# EAGLE library part ADAFRUIT_MPU6050_IMU (library AERO_Eagle_Library)
Adafruit's 6-DOF IMU: MPU6050
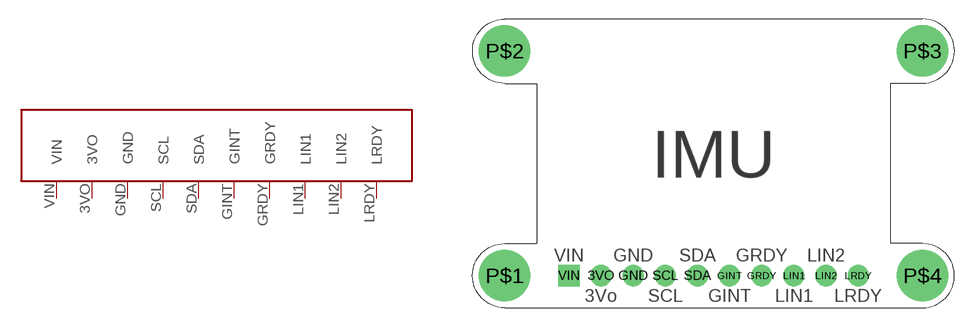
[diagram p0: symbol with the pads of ADAFRUIT_MPU6050_IMU; footprint ADAFRUIT_MPU6050_IMU]

Designator prefix U

## ADAFRUIT_MPU6050_IMU  [ADAFRUIT_MPU6050_IMU]
3VO  3VO
GINT  GINT
GND  GND
GRDY  GRDY
LIN1  LIN1
LIN2  LIN2
LRDY  LRDY
SCL  SCL
SDA  SDA
VIN  VIN

## Footprint ADAFRUIT_MPU6050_IMU (pad centres in mm)
Adafruit's 6-DOF IMU: MPU6050
drill 1 pad 1.676: 3VO 9.147,1.777; GINT 19.307,1.777; GND 11.687,1.777; GRDY 21.847,1.777; LIN1 24.387,1.777; LIN2 26.927,1.777; LRDY 29.467,1.777; SCL 14.227,1.777; SDA 16.767,1.777
drill 2.54 pad 4.064: P$1 1.527,1.777; P$2 1.527,19.558; P$3 34.544,19.558; P$4 34.544,1.777
drill 1 pad 1.676 square: VIN 6.607,1.777